# Altium schematic symbol library SCH - SENSOR - MOTION - BOSCH BNO055.SCHLIB: 1 symbol
Pins are listed as number, name and electrical type; pins without a type are passive.

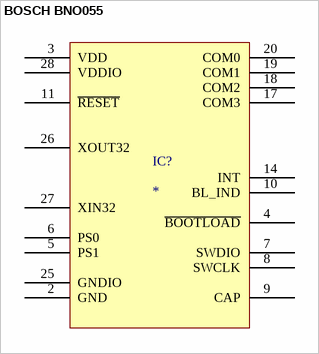
[diagram p0: symbol BOSCH BNO055]

## BOSCH BNO055
designator IC?
pins: 2 GND, 3 VDD, 4 ~{BOOTL}~{OAD}, 5 PS1, 6 PS0, 7 SWDIO, 8 SWCLK, 9 CAP, 10 BL_IND, 11 ~{RESET}, 14 INT, 17 COM3, 18 COM2, 19 COM1, 20 COM0, 25 GNDIO, 26 XOUT32, 27 XIN32, 28 VDDIO